# EAGLE library part MAX7219 (library Tic-Tac-Toe_Component)
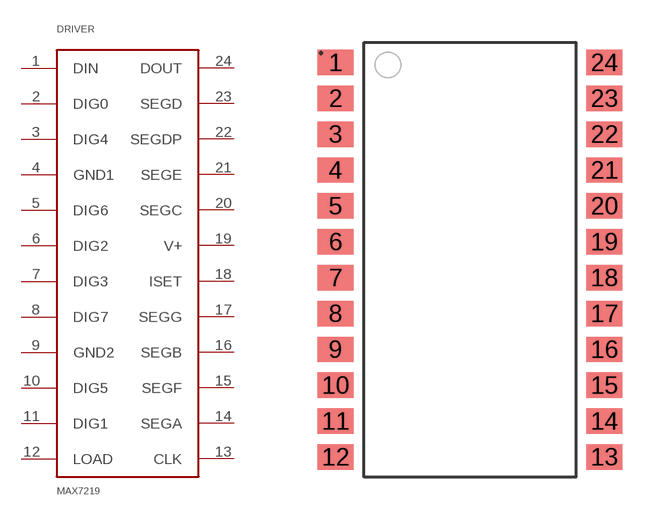
[diagram p1: symbol with the pads of MAX7219EWGT; footprint MAX7219EWGT]

Designator prefix DRIVER

## MAX7219  [MAX7219EWGT]
1  DIN
2  DIG0
3  DIG4
4  GND1  pwr
5  DIG6
6  DIG2
7  DIG3
8  DIG7
9  GND2  pwr
10  DIG5
11  DIG1
12  LOAD
13  CLK
14  SEGA
15  SEGF
16  SEGB
17  SEGG
18  ISET  pwr
19  V+  pwr
20  SEGC
21  SEGE
22  SEGDP
23  SEGD
24  DOUT

## Footprint MAX7219EWGT (pad centres in mm)
smd 1.27 x 0.9: 1 -4.76,6.985; 2 -4.76,5.715; 3 -4.76,4.445; 4 -4.76,3.175; 5 -4.76,1.905; 6 -4.76,0.635; 7 -4.76,-0.635; 8 -4.76,-1.905; 9 -4.76,-3.175; 10 -4.76,-4.445; 11 -4.76,-5.715; 12 -4.76,-6.985; 13 4.76,-6.985; 14 4.76,-5.715; 15 4.76,-4.445; 16 4.76,-3.175; 17 4.76,-1.905; 18 4.76,-0.635; 19 4.76,0.635; 20 4.76,1.905; 21 4.76,3.175; 22 4.76,4.445; 23 4.76,5.715; 24 4.76,6.985